# Altium integrated library TI Power Management Battery Management.IntLib: 949 symbols (part 12 of 62)
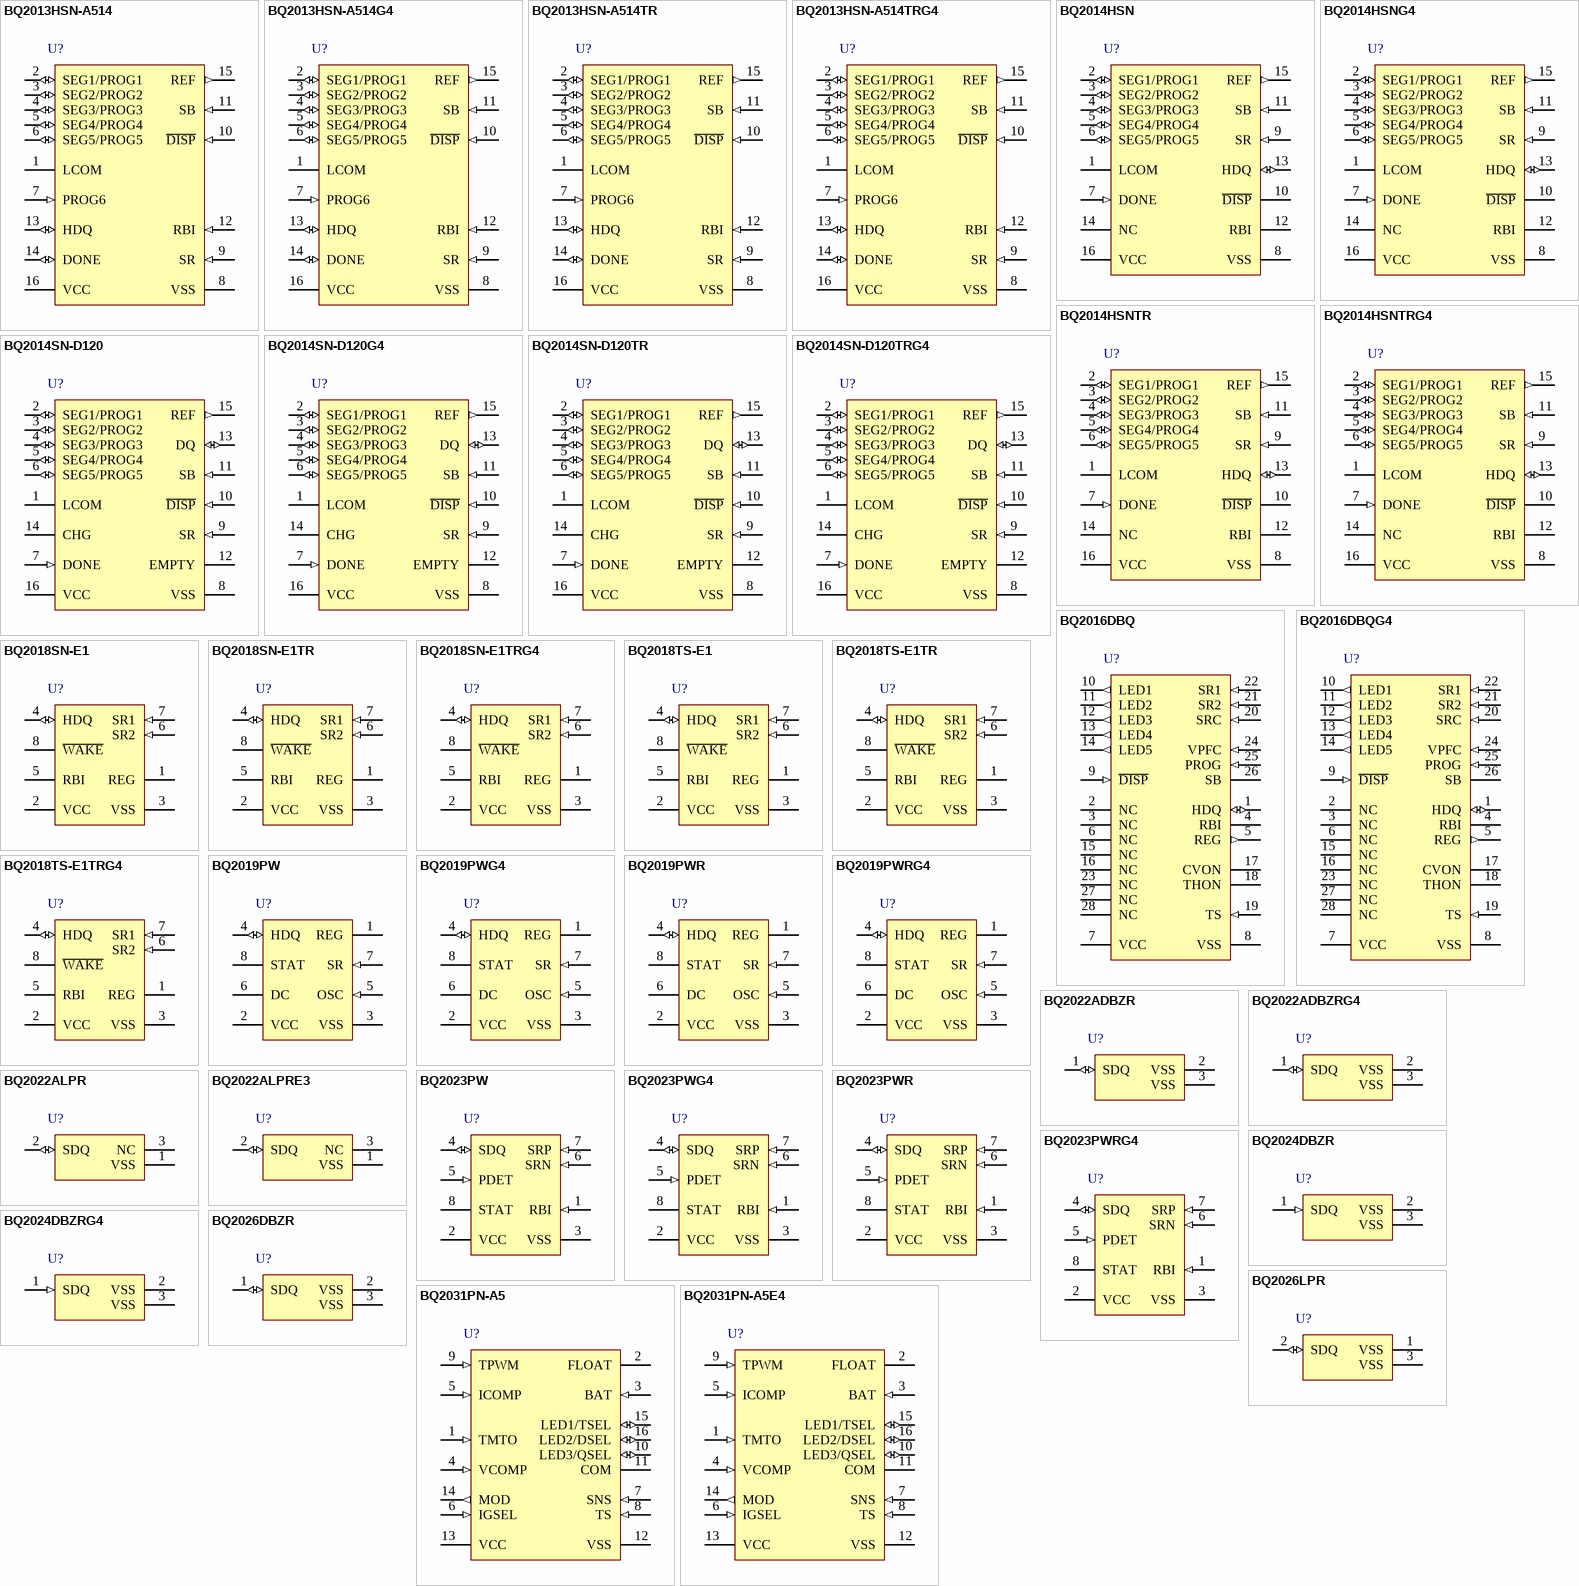
[diagram p45: symbols BQ2013HSN-A514 to BQ2031PN-A5E4]

## BQ2013HSN-A514TRG4
designator U?
NiCd / NiMH / Lead-Acid Gas Gauge for High Discharge Rates (>10 A), Pgmable Offset Error & Load Comp, 0 to 70 degC, 16-pin SOIC (D), Green (RoHS & no Sb/Br); PartNumber: BQ2013HSN-A514TRG4; Manufacturer: Texas Instruments; Lead Acid: Y; Li-Ion: N; SubFamily: Battery Fuel Gauge; DatasheetVersion: SLUS120; PackageVersion: revM, Jun-2011; PackageReference: D16; PackageDescription: 16-Pin Plastic Small Outline Integrated Circuit, 9.9 x 3.9 mm, Pitch 1.27 mm Pitch; Supplier 1: Digi-Key; Supplier Part Number 1: BQ2013HSN-A514TRG4-ND; Supplier 2: Newark; Supplier Part Number 2: 53K9213; Supplier 3: Mouser; Supplier Part Number 3: 595-BQ2013HSA514TRG4; Eco-Plan: Green (RoHS & no Sb/Br); Li-Polymer: N; NiCd: Y; NiMH: Y; Over Voltage Protection: N; Mounting Technology: Surface Mount; Code_JEDEC: MS-012AC; ComponentLink1Description: Datasheet; ComponentLink1URL: http://www.ti.com/general/docs/lit/getliterature.tsp?genericPartNumber=BQ2013H&fileType=pdf
footprint D16_N (SOIC, 16-Leads, Body 9.9x3.9mm, Pitch 1.27mm, IPC Medium Density)
footprint D16_L (SOIC, 16-Leads, Body 9.9x3.9mm, Pitch 1.27mm, IPC High Density)
footprint D16_M (SOIC, 16-Leads, Body 9.9x3.9mm, Pitch 1.27mm, IPC Low Density)
pins: 1 LCOM (hiz) "Open-drain output switches VCC to source current for the LEDs. The switch is off during initialization to allow reading of the soft pull-up or pull-down program resistors. LCOM is also high impedance when the display is off.", 2 SEG1/PROG1 (io) "Each output may activate an LED to sink the current sourced from LCOM. This three-level input pin defines the programmed full-count (PFC), display mode, self-discharge rate, offset compensation, overload threshold, and (See Datasheet)", 3 SEG2/PROG2 (io) "Each output may activate an LED to sink the current sourced from LCOM. This three-level input pin defines the programmed full-count (PFC), display mode, self-discharge rate, offset compensation, overload threshold, and (See Datasheet)", 4 SEG3/PROG3 (io) "Each output may activate an LED to sink the current sourced from LCOM. This three-level input pin defines the programmed full-count (PFC), display mode, self-discharge rate, offset compensation, overload threshold, and (See Datasheet)", 5 SEG4/PROG4 (io) "Each output may activate an LED to sink the current sourced from LCOM. This three-level input pin defines the programmed full-count (PFC), display mode, self-discharge rate, offset compensation, overload threshold, and (See Datasheet)", 6 SEG5/PROG5 (io) "Each output may activate an LED to sink the current sourced from LCOM. This three-level input pin defines the programmed full-count (PFC), display mode, self-discharge rate, offset compensation, overload threshold, and (See Datasheet)", 7 PROG6 (in) "This three-level input pin defines the programmed full-count (PFC), display mode, self-discharge rate, offset compensation, overload threshold, and charge compensation.", 8 VSS (power) "Ground", 9 SR (in) "The voltage drop (VSR) across the sense resistor RS is monitored and integrated over time to interpret charge and discharge activity. The SR input (see Figure 1) is connected between the negative terminal of the battery and (See Datasheet)", 10 ~{DISP} (in) "D\I\S\P\ pulled high disables the display. D\I\S\P\ floating allows the LED display to be active during certain charge and discharge conditions. Transitioning D\I\S\P\ low activates the display.", 11 SB (in) "This input monitors the scaled battery voltage through a high-impedance resistive divider network for the end-of-discharge voltage (EDV) thresholds.", 12 RBI (in) "This input is used to provide backup potential to the bq2013H registers during periods when VCC < 3V. A storage capacitor can be connected to RBI.", 13 HDQ (io) "This is an open-drain bidirectional communications port.", 14 DONE (io) "This input/output is used to communicate the status of an external charge controller to the bq2013H.", 15 REF (out) "REF provides a voltage reference output for an optional micro-regulator.", 16 VCC (power) "Supply voltage input"

## BQ2014HSN
designator U?
NiCd / NiMH Gas Gauge with High-Speed 1-Wire (HDQ) Interface and 5 LED Drivers, 16-pin SOIC (D), Green (RoHS & no Sb/Br); PartNumber: BQ2014HSN; Manufacturer: Texas Instruments; Lead Acid: N; NiCd: Y; SubFamily: Battery Fuel Gauge; DatasheetVersion: SLUS030A; PackageVersion: revM, Jun-2011; PackageReference: D16; PackageDescription: 16-Pin Plastic Small Outline Integrated Circuit, 9.9 x 3.9 mm, Pitch 1.27 mm Pitch; Supplier 1: Digi-Key; Supplier Part Number 1: 296-9345-5-ND; Supplier 2: Farnell; Supplier Part Number 2: 1575409; Supplier 3: Newark; Supplier Part Number 3: 74C7556; Supplier 4: Mouser; Supplier Part Number 4: 595-BQ2014HSN; Eco-Plan: Green (RoHS & no Sb/Br); Li-Ion: N; Li-Polymer: N; NiMH: Y; Over Voltage Protection: N; Mounting Technology: Surface Mount; Code_JEDEC: MS-012AC; ComponentLink1Description: Datasheet; ComponentLink1URL: http://www.ti.com/general/docs/lit/getliterature.tsp?genericPartNumber=BQ2014H&fileType=pdf
footprint D16_N (SOIC, 16-Leads, Body 9.9x3.9mm, Pitch 1.27mm, IPC Medium Density)
footprint D16_L (SOIC, 16-Leads, Body 9.9x3.9mm, Pitch 1.27mm, IPC High Density)
footprint D16_M (SOIC, 16-Leads, Body 9.9x3.9mm, Pitch 1.27mm, IPC Low Density)
pins: 1 LCOM (hiz) "LED common output.Open-drain output that switches VCC to source current for the LEDs. The switch is off during initialization to allow reading of the soft pull-up or pull-down program resistors.LCOM is also high impedance (See Datasheet)", 2 SEG1/PROG1 (io) "LED display segment outputs (dual function with PROG1).Outputs that each may activate an LED to sink the current sourced from LCOM.Programmed full count selection inputs(dual function with SEG1).Three-level input pins that (See Datasheet)", 3 SEG2/PROG2 (io) "LED display segment outputs (dual function with PROG2).Outputs that each may activate an LED to sink the current sourced from LCOM.Programmed full count selection inputs(dual function with SEG2).Three-level input pins that (See Datasheet)", 4 SEG3/PROG3 (io) "LED display segment outputs (dual function with PROG3).Outputs that each may activate an LED to sink the current sourced from LCOM.Power gauge scale selection inputs (dual function with SEG3).Three-level input pins that (See Datasheet)", 5 SEG4/PROG4 (io) "LED display segment outputs (dual function with PROG4).Outputs that each may activate an LED to sink the current sourced from LCOM.Power gauge scale selection inputs (dual function with SEG4).Three-level input pins that (See Datasheet)", 6 SEG5/PROG5 (io) "LED display segment outputs (dual function with PROG5).Outputs that each may activate an LED to sink the current sourced from LCOM.Self-discharge rate selection (dual function with SEG5).Three-level input pin that defines (See Datasheet)", 7 DONE (in) "Charge complete input.Communicates the status of an external charge-controller such as the bq2004 Fast-Charge IC to the bq2014H. Note: This pin must be pulled down to VSS using a 200kohm  resistor.", 8 VSS (power) "Ground", 9 SR (in) "The voltage drop (VSR) across the sense resistor RS is monitored and integrated over ime to interpret charge and discharge activity.VSR < VSS indicates discharge, and VSR >VSS indicates charge. The effective voltage drop, (See Datasheet)", 10 ~{DISP} "Display control input.D\I\S\P\ high disables the LED display. D\I\S\P\ tied to VCC allows PROGX to connect directly to VCC or VSS instead of through a pull-up or pull-down resistor. D\I\S\P\ floating allows the LED display (See Datasheet)", 11 SB (in) "Secondary battery input.Monitors the battery cell-voltage potential through a high-impedance resistive divider network for end-of-discharge voltage (EDV) thresholds and for battery-removed detection.", 12 RBI (power) "Register backup input.Provides backup potential to the bq2014H registers while VCC =< 3V. A storage capacitor or a battery can be connected to RBI.", 13 HDQ (io) "Serial communications input/output.This is the open-drain bidirectional communications port.", 14 NC "No connect", 15 REF (out) "Voltage reference output.REF provides a voltage reference output for an optional microregulator.", 16 VCC (power) "Supply voltage input"

## BQ2014HSNG4
designator U?
NiCd / NiMH Gas Gauge with High-Speed 1-Wire (HDQ) Interface and 5 LED Drivers, 16-pin SOIC (D), Green (RoHS & no Sb/Br); PartNumber: BQ2014HSNG4; Manufacturer: Texas Instruments; Lead Acid: N; NiCd: Y; SubFamily: Battery Fuel Gauge; DatasheetVersion: SLUS030A; PackageVersion: revM, Jun-2011; PackageReference: D16; PackageDescription: 16-Pin Plastic Small Outline Integrated Circuit, 9.9 x 3.9 mm, Pitch 1.27 mm Pitch; Supplier 1: Digi-Key; Supplier Part Number 1: BQ2014HSNG4-ND; Supplier 2: Newark; Supplier Part Number 2: 81K0110; Supplier 3: Mouser; Supplier Part Number 3: 595-BQ2014HSNG4; Eco-Plan: Green (RoHS & no Sb/Br); Li-Ion: N; Li-Polymer: N; NiMH: Y; Over Voltage Protection: N; Mounting Technology: Surface Mount; Code_JEDEC: MS-012AC; ComponentLink1Description: Datasheet; ComponentLink1URL: http://www.ti.com/general/docs/lit/getliterature.tsp?genericPartNumber=BQ2014H&fileType=pdf
footprint D16_N (SOIC, 16-Leads, Body 9.9x3.9mm, Pitch 1.27mm, IPC Medium Density)
footprint D16_L (SOIC, 16-Leads, Body 9.9x3.9mm, Pitch 1.27mm, IPC High Density)
footprint D16_M (SOIC, 16-Leads, Body 9.9x3.9mm, Pitch 1.27mm, IPC Low Density)
pins: 1 LCOM (hiz) "LED common output.Open-drain output that switches VCC to source current for the LEDs. The switch is off during initialization to allow reading of the soft pull-up or pull-down program resistors.LCOM is also high impedance (See Datasheet)", 2 SEG1/PROG1 (io) "LED display segment outputs (dual function with PROG1).Outputs that each may activate an LED to sink the current sourced from LCOM.Programmed full count selection inputs(dual function with SEG1).Three-level input pins that (See Datasheet)", 3 SEG2/PROG2 (io) "LED display segment outputs (dual function with PROG2).Outputs that each may activate an LED to sink the current sourced from LCOM.Programmed full count selection inputs(dual function with SEG2).Three-level input pins that (See Datasheet)", 4 SEG3/PROG3 (io) "LED display segment outputs (dual function with PROG3).Outputs that each may activate an LED to sink the current sourced from LCOM.Power gauge scale selection inputs (dual function with SEG3).Three-level input pins that (See Datasheet)", 5 SEG4/PROG4 (io) "LED display segment outputs (dual function with PROG4).Outputs that each may activate an LED to sink the current sourced from LCOM.Power gauge scale selection inputs (dual function with SEG4).Three-level input pins that (See Datasheet)", 6 SEG5/PROG5 (io) "LED display segment outputs (dual function with PROG5).Outputs that each may activate an LED to sink the current sourced from LCOM.Self-discharge rate selection (dual function with SEG5).Three-level input pin that defines (See Datasheet)", 7 DONE (in) "Charge complete input.Communicates the status of an external charge-controller such as the bq2004 Fast-Charge IC to the bq2014H. Note: This pin must be pulled down to VSS using a 200kohm  resistor.", 8 VSS (power) "Ground", 9 SR (in) "The voltage drop (VSR) across the sense resistor RS is monitored and integrated over ime to interpret charge and discharge activity.VSR < VSS indicates discharge, and VSR >VSS indicates charge. The effective voltage drop, (See Datasheet)", 10 ~{DISP} "Display control input.D\I\S\P\ high disables the LED display. D\I\S\P\ tied to VCC allows PROGX to connect directly to VCC or VSS instead of through a pull-up or pull-down resistor. D\I\S\P\ floating allows the LED display (See Datasheet)", 11 SB (in) "Secondary battery input.Monitors the battery cell-voltage potential through a high-impedance resistive divider network for end-of-discharge voltage (EDV) thresholds and for battery-removed detection.", 12 RBI (power) "Register backup input.Provides backup potential to the bq2014H registers while VCC =< 3V. A storage capacitor or a battery can be connected to RBI.", 13 HDQ (io) "Serial communications input/output.This is the open-drain bidirectional communications port.", 14 NC "No connect", 15 REF (out) "Voltage reference output.REF provides a voltage reference output for an optional microregulator.", 16 VCC (power) "Supply voltage input"

## BQ2014HSNTR
designator U?
NiCd / NiMH Gas Gauge with High-Speed 1-Wire (HDQ) Interface and 5 LED Drivers, 16-pin SOIC (D), Green (RoHS & no Sb/Br); PartNumber: BQ2014HSNTR; Manufacturer: Texas Instruments; Lead Acid: N; NiCd: Y; SubFamily: Battery Fuel Gauge; DatasheetVersion: SLUS030A; PackageVersion: revM, Jun-2011; PackageReference: D16; PackageDescription: 16-Pin Plastic Small Outline Integrated Circuit, 9.9 x 3.9 mm, Pitch 1.27 mm Pitch; Supplier 1: Digi-Key; Supplier Part Number 1: BQ2014HSNTR-ND; Supplier 2: Newark; Supplier Part Number 2: 74C7557; Supplier 3: Mouser; Supplier Part Number 3: 595-BQ2014HSNTR; Eco-Plan: Green (RoHS & no Sb/Br); Li-Ion: N; Li-Polymer: N; NiMH: Y; Over Voltage Protection: N; Mounting Technology: Surface Mount; Code_JEDEC: MS-012AC; ComponentLink1Description: Datasheet; ComponentLink1URL: http://www.ti.com/general/docs/lit/getliterature.tsp?genericPartNumber=BQ2014H&fileType=pdf
footprint D16_N (SOIC, 16-Leads, Body 9.9x3.9mm, Pitch 1.27mm, IPC Medium Density)
footprint D16_L (SOIC, 16-Leads, Body 9.9x3.9mm, Pitch 1.27mm, IPC High Density)
footprint D16_M (SOIC, 16-Leads, Body 9.9x3.9mm, Pitch 1.27mm, IPC Low Density)
pins: 1 LCOM (hiz) "LED common output.Open-drain output that switches VCC to source current for the LEDs. The switch is off during initialization to allow reading of the soft pull-up or pull-down program resistors.LCOM is also high impedance (See Datasheet)", 2 SEG1/PROG1 (io) "LED display segment outputs (dual function with PROG1).Outputs that each may activate an LED to sink the current sourced from LCOM.Programmed full count selection inputs(dual function with SEG1).Three-level input pins that (See Datasheet)", 3 SEG2/PROG2 (io) "LED display segment outputs (dual function with PROG2).Outputs that each may activate an LED to sink the current sourced from LCOM.Programmed full count selection inputs(dual function with SEG2).Three-level input pins that (See Datasheet)", 4 SEG3/PROG3 (io) "LED display segment outputs (dual function with PROG3).Outputs that each may activate an LED to sink the current sourced from LCOM.Power gauge scale selection inputs (dual function with SEG3).Three-level input pins that (See Datasheet)", 5 SEG4/PROG4 (io) "LED display segment outputs (dual function with PROG4).Outputs that each may activate an LED to sink the current sourced from LCOM.Power gauge scale selection inputs (dual function with SEG4).Three-level input pins that (See Datasheet)", 6 SEG5/PROG5 (io) "LED display segment outputs (dual function with PROG5).Outputs that each may activate an LED to sink the current sourced from LCOM.Self-discharge rate selection (dual function with SEG5).Three-level input pin that defines (See Datasheet)", 7 DONE (in) "Charge complete input.Communicates the status of an external charge-controller such as the bq2004 Fast-Charge IC to the bq2014H. Note: This pin must be pulled down to VSS using a 200kohm  resistor.", 8 VSS (power) "Ground", 9 SR (in) "The voltage drop (VSR) across the sense resistor RS is monitored and integrated over ime to interpret charge and discharge activity.VSR < VSS indicates discharge, and VSR >VSS indicates charge. The effective voltage drop, (See Datasheet)", 10 ~{DISP} "Display control input.D\I\S\P\ high disables the LED display. D\I\S\P\ tied to VCC allows PROGX to connect directly to VCC or VSS instead of through a pull-up or pull-down resistor. D\I\S\P\ floating allows the LED display (See Datasheet)", 11 SB (in) "Secondary battery input.Monitors the battery cell-voltage potential through a high-impedance resistive divider network for end-of-discharge voltage (EDV) thresholds and for battery-removed detection.", 12 RBI (power) "Register backup input.Provides backup potential to the bq2014H registers while VCC =< 3V. A storage capacitor or a battery can be connected to RBI.", 13 HDQ (io) "Serial communications input/output.This is the open-drain bidirectional communications port.", 14 NC "No connect", 15 REF (out) "Voltage reference output.REF provides a voltage reference output for an optional microregulator.", 16 VCC (power) "Supply voltage input"

## BQ2014HSNTRG4
designator U?
NiCd / NiMH Gas Gauge with High-Speed 1-Wire (HDQ) Interface and 5 LED Drivers, 16-pin SOIC (D), Green (RoHS & no Sb/Br); PartNumber: BQ2014HSNTRG4; Manufacturer: Texas Instruments; Lead Acid: N; NiCd: Y; SubFamily: Battery Fuel Gauge; DatasheetVersion: SLUS030A; PackageVersion: revM, Jun-2011; PackageReference: D16; PackageDescription: 16-Pin Plastic Small Outline Integrated Circuit, 9.9 x 3.9 mm, Pitch 1.27 mm Pitch; Supplier 1: Digi-Key; Supplier Part Number 1: BQ2014HSNTRG4-ND; Supplier 2: Newark; Supplier Part Number 2: 21M9440; Supplier 3: Mouser; Supplier Part Number 3: 595-BQ2014HSNTRG4; Eco-Plan: Green (RoHS & no Sb/Br); Li-Ion: N; Li-Polymer: N; NiMH: Y; Over Voltage Protection: N; Mounting Technology: Surface Mount; Code_JEDEC: MS-012AC; ComponentLink1Description: Datasheet; ComponentLink1URL: http://www.ti.com/general/docs/lit/getliterature.tsp?genericPartNumber=BQ2014H&fileType=pdf
footprint D16_N (SOIC, 16-Leads, Body 9.9x3.9mm, Pitch 1.27mm, IPC Medium Density)
footprint D16_L (SOIC, 16-Leads, Body 9.9x3.9mm, Pitch 1.27mm, IPC High Density)
footprint D16_M (SOIC, 16-Leads, Body 9.9x3.9mm, Pitch 1.27mm, IPC Low Density)
pins: 1 LCOM (hiz) "LED common output.Open-drain output that switches VCC to source current for the LEDs. The switch is off during initialization to allow reading of the soft pull-up or pull-down program resistors.LCOM is also high impedance (See Datasheet)", 2 SEG1/PROG1 (io) "LED display segment outputs (dual function with PROG1).Outputs that each may activate an LED to sink the current sourced from LCOM.Programmed full count selection inputs(dual function with SEG1).Three-level input pins that (See Datasheet)", 3 SEG2/PROG2 (io) "LED display segment outputs (dual function with PROG2).Outputs that each may activate an LED to sink the current sourced from LCOM.Programmed full count selection inputs(dual function with SEG2).Three-level input pins that (See Datasheet)", 4 SEG3/PROG3 (io) "LED display segment outputs (dual function with PROG3).Outputs that each may activate an LED to sink the current sourced from LCOM.Power gauge scale selection inputs (dual function with SEG3).Three-level input pins that (See Datasheet)", 5 SEG4/PROG4 (io) "LED display segment outputs (dual function with PROG4).Outputs that each may activate an LED to sink the current sourced from LCOM.Power gauge scale selection inputs (dual function with SEG4).Three-level input pins that (See Datasheet)", 6 SEG5/PROG5 (io) "LED display segment outputs (dual function with PROG5).Outputs that each may activate an LED to sink the current sourced from LCOM.Self-discharge rate selection (dual function with SEG5).Three-level input pin that defines (See Datasheet)", 7 DONE (in) "Charge complete input.Communicates the status of an external charge-controller such as the bq2004 Fast-Charge IC to the bq2014H. Note: This pin must be pulled down to VSS using a 200kohm  resistor.", 8 VSS (power) "Ground", 9 SR (in) "The voltage drop (VSR) across the sense resistor RS is monitored and integrated over ime to interpret charge and discharge activity.VSR < VSS indicates discharge, and VSR >VSS indicates charge. The effective voltage drop, (See Datasheet)", 10 ~{DISP} "Display control input.D\I\S\P\ high disables the LED display. D\I\S\P\ tied to VCC allows PROGX to connect directly to VCC or VSS instead of through a pull-up or pull-down resistor. D\I\S\P\ floating allows the LED display (See Datasheet)", 11 SB (in) "Secondary battery input.Monitors the battery cell-voltage potential through a high-impedance resistive divider network for end-of-discharge voltage (EDV) thresholds and for battery-removed detection.", 12 RBI (power) "Register backup input.Provides backup potential to the bq2014H registers while VCC =< 3V. A storage capacitor or a battery can be connected to RBI.", 13 HDQ (io) "Serial communications input/output.This is the open-drain bidirectional communications port.", 14 NC "No connect", 15 REF (out) "Voltage reference output.REF provides a voltage reference output for an optional microregulator.", 16 VCC (power) "Supply voltage input"

## BQ2014SN-D120
designator U?
NiCd / NiMH Gas Gauge with 1-Wire (DQ) I / F, 5 LED Drivers, Control Signals for BQ2004 Fast-Charge IC, 0 to 70 degC, 16-pin SOIC (D), Green (RoHS & no Sb/Br); PartNumber: BQ2014SN-D120; Manufacturer: Texas Instruments; Lead Acid: N; NiCd: Y; SubFamily: Battery Fuel Gauge; PackageVersion: revM, Jun-2011; PackageReference: D16; PackageDescription: 16-Pin Plastic Small Outline Integrated Circuit, 9.9 x 3.9 mm, Pitch 1.27 mm Pitch; Supplier 1: Digi-Key; Supplier Part Number 1: 296-2220-5-ND; Supplier 2: Farnell; Supplier Part Number 2: 8466246; Supplier 3: Newark; Supplier Part Number 3: 37K9647; Supplier 4: Newark; Supplier Part Number 4: 35C1596; Supplier 5: Mouser; Supplier Part Number 5: 595-BQ2014SN-D120; Eco-Plan: Green (RoHS & no Sb/Br); Li-Ion: N; Li-Polymer: N; NiMH: Y; Over Voltage Protection: N; Mounting Technology: Surface Mount; Code_JEDEC: MS-012AC; ComponentLink1Description: Datasheet; ComponentLink1URL: http://www.ti.com/general/docs/lit/getliterature.tsp?genericPartNumber=BQ2014&fileType=pdf
footprint D16_N (SOIC, 16-Leads, Body 9.9x3.9mm, Pitch 1.27mm, IPC Medium Density)
footprint D16_L (SOIC, 16-Leads, Body 9.9x3.9mm, Pitch 1.27mm, IPC High Density)
footprint D16_M (SOIC, 16-Leads, Body 9.9x3.9mm, Pitch 1.27mm, IPC Low Density)
pins: 1 LCOM (hiz) "Open-drain output switches VCC to source current for the LEDs. The switch is off during initialization to allow reading of the soft pull-up or pull-down program resistors.LCOM is also high impedance when the display is off.", 2 SEG1/PROG1 (io) "Each output may activate an LED to sink the current sourced from LCOM./These three-level input pins define the programmed full count (PFC) thresholds described in Table 2.", 3 SEG2/PROG2 (io) "Each output may activate an LED to sink the current sourced from LCOM./These three-level input pins define the programmed full count (PFC) thresholds described in Table 2.", 4 SEG3/PROG3 (io) "Each output may activate an LED to sink the current sourced from LCOM./These three-level input pins define the scale factor described in Table 2.", 5 SEG4/PROG4 (io) "Each output may activate an LED to sink the current sourced from LCOM./These three-level input pins define the scale factor described in Table 2.", 6 SEG5/PROG5 (io) "Each output may activate an LED to sink the current sourced from LCOM./This three-level input pin defines the selfdischarge and battery compensation factors as shown in Table 1.", 7 DONE (in) "This input is used to communicate the status of an external charge controller such as the bq2004 Fast Charge IC. Note: This pin must be pulled down to VSS using a 200KO resistor.", 8 VSS (power) "Ground", 9 SR (in) "The voltage drop (VSR) across the sense resistor RS is monitored and integrated over time to interpret charge and discharge activity.The SR input is tied to the high side of the sense resistor. VSR < VSS indicates (See Datasheet)", 10 ~{DISP} (in) "D\I\S\P\ high disables the LED display.D\I\S\P\ tied to VCC allows PROGX to connect directly to VCC or VSS instead of through a pull-up or pull-down reistor.D\I\S\P\ floating allows the LED display to be active during a (See Datasheet)", 11 SB (in) "This input monitors the single-cell voltage potential through a high-impedance resistive divider network for the end-of-discharge voltage (EDV) thresholds,maximum charge voltage (MCV), and battery removed.", 12 EMPTY (hiz) "This open-drain output becomes highimpedance on detection of a valid final endof-discharge voltage (VEDVF) and is low following the next application of a valid charge.", 13 DQ (io) "This is an open-drain bidirectional pin.", 14 CHG (oc) "This open-drain output becomes active high when charging is allowed.", 15 REF (out) "REF provides a reference output for an optional FET-based micro-regulator.", 16 VCC (power) "Supply voltage input"

## BQ2014SN-D120G4
designator U?
NiCd / NiMH Gas Gauge with 1-Wire (DQ) I / F, 5 LED Drivers, Control Signals for BQ2004 Fast-Charge IC, 0 to 70 degC, 16-pin SOIC (D), Green (RoHS & no Sb/Br); PartNumber: BQ2014SN-D120G4; Manufacturer: Texas Instruments; Lead Acid: N; NiCd: Y; SubFamily: Battery Fuel Gauge; PackageVersion: revM, Jun-2011; PackageReference: D16; PackageDescription: 16-Pin Plastic Small Outline Integrated Circuit, 9.9 x 3.9 mm, Pitch 1.27 mm Pitch; Supplier 1: Digi-Key; Supplier Part Number 1: BQ2014SN-D120G4-ND; Supplier 2: Newark; Supplier Part Number 2: 30M3416; Supplier 3: Mouser; Supplier Part Number 3: 595-BQ2014SN-D120G4; Eco-Plan: Green (RoHS & no Sb/Br); Li-Ion: N; Li-Polymer: N; NiMH: Y; Over Voltage Protection: N; Mounting Technology: Surface Mount; Code_JEDEC: MS-012AC; ComponentLink1Description: Datasheet; ComponentLink1URL: http://www.ti.com/general/docs/lit/getliterature.tsp?genericPartNumber=BQ2014&fileType=pdf
footprint D16_N (SOIC, 16-Leads, Body 9.9x3.9mm, Pitch 1.27mm, IPC Medium Density)
footprint D16_L (SOIC, 16-Leads, Body 9.9x3.9mm, Pitch 1.27mm, IPC High Density)
footprint D16_M (SOIC, 16-Leads, Body 9.9x3.9mm, Pitch 1.27mm, IPC Low Density)
pins: 1 LCOM (hiz) "Open-drain output switches VCC to source current for the LEDs. The switch is off during initialization to allow reading of the soft pull-up or pull-down program resistors.LCOM is also high impedance when the display is off.", 2 SEG1/PROG1 (io) "Each output may activate an LED to sink the current sourced from LCOM./These three-level input pins define the programmed full count (PFC) thresholds described in Table 2.", 3 SEG2/PROG2 (io) "Each output may activate an LED to sink the current sourced from LCOM./These three-level input pins define the programmed full count (PFC) thresholds described in Table 2.", 4 SEG3/PROG3 (io) "Each output may activate an LED to sink the current sourced from LCOM./These three-level input pins define the scale factor described in Table 2.", 5 SEG4/PROG4 (io) "Each output may activate an LED to sink the current sourced from LCOM./These three-level input pins define the scale factor described in Table 2.", 6 SEG5/PROG5 (io) "Each output may activate an LED to sink the current sourced from LCOM./This three-level input pin defines the selfdischarge and battery compensation factors as shown in Table 1.", 7 DONE (in) "This input is used to communicate the status of an external charge controller such as the bq2004 Fast Charge IC. Note: This pin must be pulled down to VSS using a 200KO resistor.", 8 VSS (power) "Ground", 9 SR (in) "The voltage drop (VSR) across the sense resistor RS is monitored and integrated over time to interpret charge and discharge activity.The SR input is tied to the high side of the sense resistor. VSR < VSS indicates (See Datasheet)", 10 ~{DISP} (in) "D\I\S\P\ high disables the LED display.D\I\S\P\ tied to VCC allows PROGX to connect directly to VCC or VSS instead of through a pull-up or pull-down reistor.D\I\S\P\ floating allows the LED display to be active during a (See Datasheet)", 11 SB (in) "This input monitors the single-cell voltage potential through a high-impedance resistive divider network for the end-of-discharge voltage (EDV) thresholds,maximum charge voltage (MCV), and battery removed.", 12 EMPTY (hiz) "This open-drain output becomes highimpedance on detection of a valid final endof-discharge voltage (VEDVF) and is low following the next application of a valid charge.", 13 DQ (io) "This is an open-drain bidirectional pin.", 14 CHG (oc) "This open-drain output becomes active high when charging is allowed.", 15 REF (out) "REF provides a reference output for an optional FET-based micro-regulator.", 16 VCC (power) "Supply voltage input"

## BQ2014SN-D120TR
designator U?
NiCd / NiMH Gas Gauge with 1-Wire (DQ) I / F, 5 LED Drivers, Control Signals for BQ2004 Fast-Charge IC, 0 to 70 degC, 16-pin SOIC (D), Green (RoHS & no Sb/Br); PartNumber: BQ2014SN-D120TR; Manufacturer: Texas Instruments; Lead Acid: N; NiCd: Y; SubFamily: Battery Fuel Gauge; PackageVersion: revM, Jun-2011; PackageReference: D16; PackageDescription: 16-Pin Plastic Small Outline Integrated Circuit, 9.9 x 3.9 mm, Pitch 1.27 mm Pitch; Supplier 1: Digi-Key; Supplier Part Number 1: BQ2014SN-D120TR-ND; Supplier 2: Newark; Supplier Part Number 2: 74C7558; Supplier 3: Mouser; Supplier Part Number 3: 595-BQ2014SN-D120TR; Eco-Plan: Green (RoHS & no Sb/Br); Li-Ion: N; Li-Polymer: N; NiMH: Y; Over Voltage Protection: N; Mounting Technology: Surface Mount; Code_JEDEC: MS-012AC; ComponentLink1Description: Datasheet; ComponentLink1URL: http://www.ti.com/general/docs/lit/getliterature.tsp?genericPartNumber=BQ2014&fileType=pdf
footprint D16_N (SOIC, 16-Leads, Body 9.9x3.9mm, Pitch 1.27mm, IPC Medium Density)
footprint D16_L (SOIC, 16-Leads, Body 9.9x3.9mm, Pitch 1.27mm, IPC High Density)
footprint D16_M (SOIC, 16-Leads, Body 9.9x3.9mm, Pitch 1.27mm, IPC Low Density)
pins: 1 LCOM (hiz) "Open-drain output switches VCC to source current for the LEDs. The switch is off during initialization to allow reading of the soft pull-up or pull-down program resistors.LCOM is also high impedance when the display is off.", 2 SEG1/PROG1 (io) "Each output may activate an LED to sink the current sourced from LCOM./These three-level input pins define the programmed full count (PFC) thresholds described in Table 2.", 3 SEG2/PROG2 (io) "Each output may activate an LED to sink the current sourced from LCOM./These three-level input pins define the programmed full count (PFC) thresholds described in Table 2.", 4 SEG3/PROG3 (io) "Each output may activate an LED to sink the current sourced from LCOM./These three-level input pins define the scale factor described in Table 2.", 5 SEG4/PROG4 (io) "Each output may activate an LED to sink the current sourced from LCOM./These three-level input pins define the scale factor described in Table 2.", 6 SEG5/PROG5 (io) "Each output may activate an LED to sink the current sourced from LCOM./This three-level input pin defines the selfdischarge and battery compensation factors as shown in Table 1.", 7 DONE (in) "This input is used to communicate the status of an external charge controller such as the bq2004 Fast Charge IC. Note: This pin must be pulled down to VSS using a 200KO resistor.", 8 VSS (power) "Ground", 9 SR (in) "The voltage drop (VSR) across the sense resistor RS is monitored and integrated over time to interpret charge and discharge activity.The SR input is tied to the high side of the sense resistor. VSR < VSS indicates (See Datasheet)", 10 ~{DISP} (in) "D\I\S\P\ high disables the LED display.D\I\S\P\ tied to VCC allows PROGX to connect directly to VCC or VSS instead of through a pull-up or pull-down reistor.D\I\S\P\ floating allows the LED display to be active during a (See Datasheet)", 11 SB (in) "This input monitors the single-cell voltage potential through a high-impedance resistive divider network for the end-of-discharge voltage (EDV) thresholds,maximum charge voltage (MCV), and battery removed.", 12 EMPTY (hiz) "This open-drain output becomes highimpedance on detection of a valid final endof-discharge voltage (VEDVF) and is low following the next application of a valid charge.", 13 DQ (io) "This is an open-drain bidirectional pin.", 14 CHG (oc) "This open-drain output becomes active high when charging is allowed.", 15 REF (out) "REF provides a reference output for an optional FET-based micro-regulator.", 16 VCC (power) "Supply voltage input"

## BQ2014SN-D120TRG4
designator U?
NiCd / NiMH Gas Gauge with 1-Wire (DQ) I / F, 5 LED Drivers, Control Signals for BQ2004 Fast-Charge IC, 0 to 70 degC, 16-pin SOIC (D), Green (RoHS & no Sb/Br); PartNumber: BQ2014SN-D120TRG4; Manufacturer: Texas Instruments; Lead Acid: N; NiCd: Y; SubFamily: Battery Fuel Gauge; PackageVersion: revM, Jun-2011; PackageReference: D16; PackageDescription: 16-Pin Plastic Small Outline Integrated Circuit, 9.9 x 3.9 mm, Pitch 1.27 mm Pitch; Supplier 1: Digi-Key; Supplier Part Number 1: BQ2014SN-D120TRG4-ND; Supplier 2: Newark; Supplier Part Number 2: 58K5572; Supplier 3: Mouser; Supplier Part Number 3: 595-BQ2014SND120TRG4; Eco-Plan: Green (RoHS & no Sb/Br); Li-Ion: N; Li-Polymer: N; NiMH: Y; Over Voltage Protection: N; Mounting Technology: Surface Mount; Code_JEDEC: MS-012AC; ComponentLink1Description: Datasheet; ComponentLink1URL: http://www.ti.com/general/docs/lit/getliterature.tsp?genericPartNumber=BQ2014&fileType=pdf
footprint D16_N (SOIC, 16-Leads, Body 9.9x3.9mm, Pitch 1.27mm, IPC Medium Density)
footprint D16_L (SOIC, 16-Leads, Body 9.9x3.9mm, Pitch 1.27mm, IPC High Density)
footprint D16_M (SOIC, 16-Leads, Body 9.9x3.9mm, Pitch 1.27mm, IPC Low Density)
pins: 1 LCOM (hiz) "Open-drain output switches VCC to source current for the LEDs. The switch is off during initialization to allow reading of the soft pull-up or pull-down program resistors.LCOM is also high impedance when the display is off.", 2 SEG1/PROG1 (io) "Each output may activate an LED to sink the current sourced from LCOM./These three-level input pins define the programmed full count (PFC) thresholds described in Table 2.", 3 SEG2/PROG2 (io) "Each output may activate an LED to sink the current sourced from LCOM./These three-level input pins define the programmed full count (PFC) thresholds described in Table 2.", 4 SEG3/PROG3 (io) "Each output may activate an LED to sink the current sourced from LCOM./These three-level input pins define the scale factor described in Table 2.", 5 SEG4/PROG4 (io) "Each output may activate an LED to sink the current sourced from LCOM./These three-level input pins define the scale factor described in Table 2.", 6 SEG5/PROG5 (io) "Each output may activate an LED to sink the current sourced from LCOM./This three-level input pin defines the selfdischarge and battery compensation factors as shown in Table 1.", 7 DONE (in) "This input is used to communicate the status of an external charge controller such as the bq2004 Fast Charge IC. Note: This pin must be pulled down to VSS using a 200KO resistor.", 8 VSS (power) "Ground", 9 SR (in) "The voltage drop (VSR) across the sense resistor RS is monitored and integrated over time to interpret charge and discharge activity.The SR input is tied to the high side of the sense resistor. VSR < VSS indicates (See Datasheet)", 10 ~{DISP} (in) "D\I\S\P\ high disables the LED display.D\I\S\P\ tied to VCC allows PROGX to connect directly to VCC or VSS instead of through a pull-up or pull-down reistor.D\I\S\P\ floating allows the LED display to be active during a (See Datasheet)", 11 SB (in) "This input monitors the single-cell voltage potential through a high-impedance resistive divider network for the end-of-discharge voltage (EDV) thresholds,maximum charge voltage (MCV), and battery removed.", 12 EMPTY (hiz) "This open-drain output becomes highimpedance on detection of a valid final endof-discharge voltage (VEDVF) and is low following the next application of a valid charge.", 13 DQ (io) "This is an open-drain bidirectional pin.", 14 CHG (oc) "This open-drain output becomes active high when charging is allowed.", 15 REF (out) "REF provides a reference output for an optional FET-based micro-regulator.", 16 VCC (power) "Supply voltage input"

## BQ2016DBQ
designator U?
NiCd / NiMH Gas Gauge for High Discharge Rates (>5 A), with Pack Capacities (<5 Ah), 0 to 70 degC, 28-pin SSOP (DBQ), Green (RoHS & no Sb/Br); PartNumber: BQ2016DBQ; Manufacturer: Texas Instruments; Lead Acid: N; NiCd: Y; SubFamily: Battery Fuel Gauge; DatasheetVersion: SLUS475A; PackageVersion: revH, Oct-2008; PackageReference: DBQ28; PackageDescription: 28-Pin Plastic Small Outline Package 0.635 mm Pitch; Supplier 1: Digi-Key; Supplier Part Number 1: BQ2016DBQ-ND; Supplier 2: Newark; Supplier Part Number 2: 74C7559; Supplier 3: Mouser; Supplier Part Number 3: 595-BQ2016DBQ; Eco-Plan: Green (RoHS & no Sb/Br); Li-Ion: N; Li-Polymer: N; NiMH: Y; Over Voltage Protection: N; Mounting Technology: Surface Mount; Code_JEDEC: MO-137-AF; ComponentLink1Description: Datasheet; ComponentLink1URL: http://www.ti.com/general/docs/lit/getliterature.tsp?genericPartNumber=BQ2016&fileType=pdf
footprint DBQ28_N (SOP, 28-Leads, Body 9.9x3.9mm, Pitch 0.635mm, IPC Medium Density)
footprint DBQ28_L (SOP, 28-Leads, Body 9.9x3.9mm, Pitch 0.635mm, IPC High Density)
footprint DBQ28_M (SOP, 28-Leads, Body 9.9x3.9mm, Pitch 0.635mm, IPC Low Density)
pins: 1 HDQ (io) "Serial communication input/output. Open-drain bidirectional communications port.", 2 NC "Do not connect. For proper device operation, these pins should not be connected.", 3 NC "Do not connect. For proper device operation, these pins should not be connected.", 4 RBI (power) "Register backup input provides backup potential to the bq2016 registers during periods of low operating voltage. RBI accepts a storage capacitor or a battery input.", 5 REG (out) "Regulator output provides a reference to control an n-JFET for VCC regulation to the bq2016 from the battery potential.", 6 NC "Do not connect. For proper device operation, these pins should not be connected.", 7 VCC (power) "Supply voltage input", 8 VSS (power) "Ground", 9 ~{DISP} (in) "Display activation input that activates the LED drivers LED1-LED5.", 10 LED1 (out) "LED display segment outputs that each may drive an external LED.", 11 LED2 (out) "LED display segment outputs that each may drive an external LED.", 12 LED3 (out) "LED display segment outputs that each may drive an external LED.", 13 LED4 (out) "LED display segment outputs that each may drive an external LED.", 14 LED5 (out) "LED display segment outputs that each may drive an external LED.", 15 NC "Do not connect. For proper device operation, these pins should not be connected.", 16 NC "Do not connect. For proper device operation, these pins should not be connected.", 17 CVON (hiz) "Cell voltage divider control. Output to connect the voltage divider on the voltage input during measurement.", 18 THON (hiz) "Thermistor bias control output to control a switch in series with an optional external thermistor.", 19 TS (in) "Temperature sense input connects to an external thermistor or should be grounded when using the internal thermistor. The function depends on the state of the PROG input.", 20 SRC (in) "Current sense voltage input to monitor instantaneous current.", 21 SR2 (in) "Sense resistor inputs. Input connections for a small value sense resistor to monitor the battery charge and discharge current flow.", 22 SR1 (in) "Sense resistor inputs. Input connections for a small value sense resistor to monitor the battery charge and discharge current flow.", 23 NC "Do not connect. For proper device operation, these pins should not be connected.", 24 VPFC (in) "Program capacity input. 16-level input to program the initial battery full-charge reference.", 25 PROG (in) "Program input defines the temperature measurement thermistor (internal or external).", 26 SB (power) "Battery voltage input. Input connection to monitor battery-pack voltage.", 27 NC "Do not connect. For proper device operation, these pins should not be connected.", 28 NC "Do not connect. For proper device operation, these pins should not be connected."

## BQ2016DBQG4
designator U?
NiCd / NiMH Gas Gauge for High Discharge Rates (>5 A), with Pack Capacities (<5 Ah), 0 to 70 degC, 28-pin SSOP (DBQ), Green (RoHS & no Sb/Br); PartNumber: BQ2016DBQG4; Manufacturer: Texas Instruments; Lead Acid: N; NiCd: Y; SubFamily: Battery Fuel Gauge; DatasheetVersion: SLUS475A; PackageVersion: revH, Oct-2008; PackageReference: DBQ28; PackageDescription: 28-Pin Plastic Small Outline Package 0.635 mm Pitch; Supplier 1: Digi-Key; Supplier Part Number 1: BQ2016DBQG4-ND; Supplier 2: Newark; Supplier Part Number 2: 67K7893; Supplier 3: Mouser; Supplier Part Number 3: 595-BQ2016DBQG4; Eco-Plan: Green (RoHS & no Sb/Br); Li-Ion: N; Li-Polymer: N; NiMH: Y; Over Voltage Protection: N; Mounting Technology: Surface Mount; Code_JEDEC: MO-137-AF; ComponentLink1Description: Datasheet; ComponentLink1URL: http://www.ti.com/general/docs/lit/getliterature.tsp?genericPartNumber=BQ2016&fileType=pdf
footprint DBQ28_N (SOP, 28-Leads, Body 9.9x3.9mm, Pitch 0.635mm, IPC Medium Density)
footprint DBQ28_L (SOP, 28-Leads, Body 9.9x3.9mm, Pitch 0.635mm, IPC High Density)
footprint DBQ28_M (SOP, 28-Leads, Body 9.9x3.9mm, Pitch 0.635mm, IPC Low Density)
pins: 1 HDQ (io) "Serial communication input/output. Open-drain bidirectional communications port.", 2 NC "Do not connect. For proper device operation, these pins should not be connected.", 3 NC "Do not connect. For proper device operation, these pins should not be connected.", 4 RBI (power) "Register backup input provides backup potential to the bq2016 registers during periods of low operating voltage. RBI accepts a storage capacitor or a battery input.", 5 REG (out) "Regulator output provides a reference to control an n-JFET for VCC regulation to the bq2016 from the battery potential.", 6 NC "Do not connect. For proper device operation, these pins should not be connected.", 7 VCC (power) "Supply voltage input", 8 VSS (power) "Ground", 9 ~{DISP} (in) "Display activation input that activates the LED drivers LED1-LED5.", 10 LED1 (out) "LED display segment outputs that each may drive an external LED.", 11 LED2 (out) "LED display segment outputs that each may drive an external LED.", 12 LED3 (out) "LED display segment outputs that each may drive an external LED.", 13 LED4 (out) "LED display segment outputs that each may drive an external LED.", 14 LED5 (out) "LED display segment outputs that each may drive an external LED.", 15 NC "Do not connect. For proper device operation, these pins should not be connected.", 16 NC "Do not connect. For proper device operation, these pins should not be connected.", 17 CVON (hiz) "Cell voltage divider control. Output to connect the voltage divider on the voltage input during measurement.", 18 THON (hiz) "Thermistor bias control output to control a switch in series with an optional external thermistor.", 19 TS (in) "Temperature sense input connects to an external thermistor or should be grounded when using the internal thermistor. The function depends on the state of the PROG input.", 20 SRC (in) "Current sense voltage input to monitor instantaneous current.", 21 SR2 (in) "Sense resistor inputs. Input connections for a small value sense resistor to monitor the battery charge and discharge current flow.", 22 SR1 (in) "Sense resistor inputs. Input connections for a small value sense resistor to monitor the battery charge and discharge current flow.", 23 NC "Do not connect. For proper device operation, these pins should not be connected.", 24 VPFC (in) "Program capacity input. 16-level input to program the initial battery full-charge reference.", 25 PROG (in) "Program input defines the temperature measurement thermistor (internal or external).", 26 SB (power) "Battery voltage input. Input connection to monitor battery-pack voltage.", 27 NC "Do not connect. For proper device operation, these pins should not be connected.", 28 NC "Do not connect. For proper device operation, these pins should not be connected."

## BQ2018SN-E1
designator U?
Multi-Chemistry Charge / Discharge Counter with High-Speed 1-Wire I / F (HDQ), -20 to 70 degC, 8-pin SOIC (D), Green (RoHS & no Sb/Br); PartNumber: BQ2018SN-E1; Manufacturer: Texas Instruments; Lead Acid: Y; Over Voltage Protection: N; SubFamily: Battery Fuel Gauge; DatasheetVersion: SLUS003; PackageVersion: revM, Jun-2011; PackageReference: D8; PackageDescription: 8-Pin Plastic Small Outline Integrated Circuit, 4.9 x 3.9 mm, Pitch 1.27 mm Pitch; Supplier 1: Digi-Key; Supplier Part Number 1: 296-2221-5-ND; Supplier 2: Newark; Supplier Part Number 2: 35C1597; Supplier 3: Mouser; Supplier Part Number 3: 595-BQ2018SN-E1; Eco-Plan: Green (RoHS & no Sb/Br); Li-Ion: Y; Li-Polymer: Y; NiCd: Y; NiMH: Y; Mounting Technology: Surface Mount; Code_JEDEC: MS-012AA; ComponentLink1Description: Datasheet; ComponentLink1URL: http://www.ti.com/general/docs/lit/getliterature.tsp?genericPartNumber=BQ2018&fileType=pdf
footprint D8_N (SOIC, 8-Leads, Body 4.9x3.9mm, Pitch 1.27mm, IPC Medium Density)
footprint D8_L (SOIC, 8-Leads, Body 4.9x3.9mm, Pitch 1.27mm, IPC High Density)
footprint D8_M (SOIC, 8-Leads, Body 4.9x3.9mm, Pitch 1.27mm, IPC Low Density)
pins: 1 REG (power) "Regulator output.REG is the output of the operational transconductance amplifier (OTA) that drives an external pass n-channel JFET to provide an optional regulated supply. The supply is regulated at 3.7V nominal.", 2 VCC (power) "Supply voltage input.When regulated by the REG output, VCC is 3.7V +/-200mV. When the REG output is not used, the valid operating range is 2.8V to 5.5V.", 3 VSS (power) "Ground", 4 HDQ (io) "Data input/output.This bi-directional input/output communicates the register information to the host system. HDQ is open drain and requires a pullup/down resistor in the battery pack to disable/enable sleep mode if the pack (See Datasheet)", 5 RBI (power) "Register backup input.This input maintains the internal register states during periods when VCC is below the minimum operating voltage.", 6 SR2 (in) "Current sense input 2.The bq2018 interprets charge and discharge activity by monitoring and integrating the voltage drop (VSR) across pins SR1 and SR2.The SR1 input connects to the sense resistor and the negative terminal of (See Datasheet)", 7 SR1 (in) "Current sense input 1.The bq2018 interprets charge and discharge activity by monitoring and integrating the voltage drop (VSR) across pins SR1 and SR2.The SR1 input connects to the sense resistor and the negative terminal of (See Datasheet)", 8 ~{WAKE} (hiz) "Wake-up output.When asserted, this output is used to indicate that the charge or discharge activity is above a programmed minimal level."

## BQ2018SN-E1TR
designator U?
Multi-Chemistry Charge / Discharge Counter with High-Speed 1-Wire I / F (HDQ), -20 to 70 degC, 8-pin SOIC (D), Green (RoHS & no Sb/Br); PartNumber: BQ2018SN-E1TR; Manufacturer: Texas Instruments; Lead Acid: Y; Over Voltage Protection: N; SubFamily: Battery Fuel Gauge; DatasheetVersion: SLUS003; PackageVersion: revM, Jun-2011; PackageReference: D8; PackageDescription: 8-Pin Plastic Small Outline Integrated Circuit, 4.9 x 3.9 mm, Pitch 1.27 mm Pitch; Supplier 1: Digi-Key; Supplier Part Number 1: BQ2018SN-E1TR-ND; Supplier 2: Newark; Supplier Part Number 2: 74C7562; Supplier 3: Mouser; Supplier Part Number 3: 595-BQ2018SN-E1TR; Eco-Plan: Green (RoHS & no Sb/Br); Li-Ion: Y; Li-Polymer: Y; NiCd: Y; NiMH: Y; Mounting Technology: Surface Mount; Code_JEDEC: MS-012AA; ComponentLink1Description: Datasheet; ComponentLink1URL: http://www.ti.com/general/docs/lit/getliterature.tsp?genericPartNumber=BQ2018&fileType=pdf
footprint D8_N (SOIC, 8-Leads, Body 4.9x3.9mm, Pitch 1.27mm, IPC Medium Density)
footprint D8_L (SOIC, 8-Leads, Body 4.9x3.9mm, Pitch 1.27mm, IPC High Density)
footprint D8_M (SOIC, 8-Leads, Body 4.9x3.9mm, Pitch 1.27mm, IPC Low Density)
pins: 1 REG (power) "Regulator output.REG is the output of the operational transconductance amplifier (OTA) that drives an external pass n-channel JFET to provide an optional regulated supply. The supply is regulated at 3.7V nominal.", 2 VCC (power) "Supply voltage input.When regulated by the REG output, VCC is 3.7V +/-200mV. When the REG output is not used, the valid operating range is 2.8V to 5.5V.", 3 VSS (power) "Ground", 4 HDQ (io) "Data input/output.This bi-directional input/output communicates the register information to the host system. HDQ is open drain and requires a pullup/down resistor in the battery pack to disable/enable sleep mode if the pack (See Datasheet)", 5 RBI (power) "Register backup input.This input maintains the internal register states during periods when VCC is below the minimum operating voltage.", 6 SR2 (in) "Current sense input 2.The bq2018 interprets charge and discharge activity by monitoring and integrating the voltage drop (VSR) across pins SR1 and SR2.The SR1 input connects to the sense resistor and the negative terminal of (See Datasheet)", 7 SR1 (in) "Current sense input 1.The bq2018 interprets charge and discharge activity by monitoring and integrating the voltage drop (VSR) across pins SR1 and SR2.The SR1 input connects to the sense resistor and the negative terminal of (See Datasheet)", 8 ~{WAKE} (hiz) "Wake-up output.When asserted, this output is used to indicate that the charge or discharge activity is above a programmed minimal level."